# Altium footprint library Battery.PcbLib: 1 footprints
Each footprint in its own frame and in the unit in brackets; x right, y up, seen from the top. Pads: shape width x height; smd on the part's side, far side on the other; paste and mask are expansions set on the pad; w line width, h text height; cw(c..) or ccw(c..) is an arc to the next point about the centre after c.
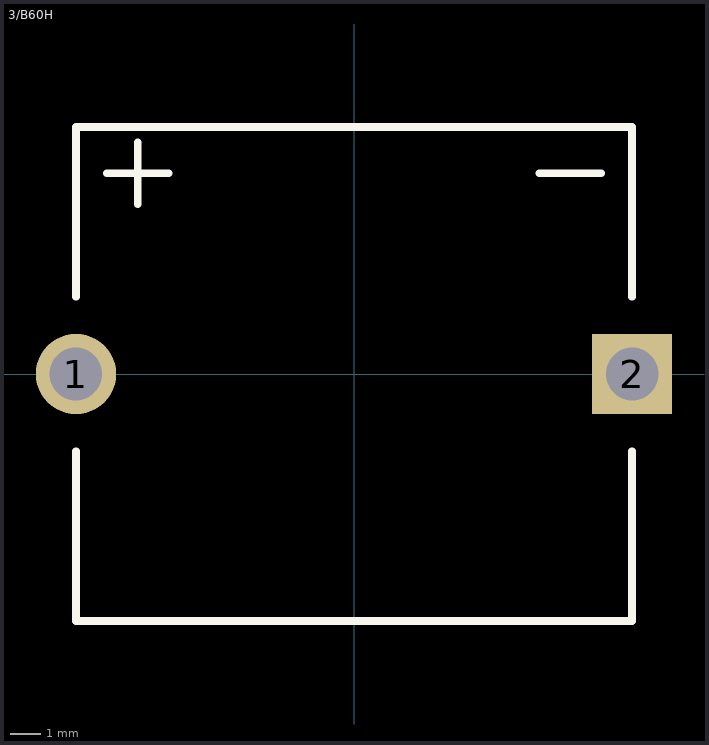
[diagram p0: the footprint, top view; thin cyan lines are the x and y axes]

## 3/B60H [mm]
pads (2):
  round 2.6 hole 1.7 paste-1000 mask+0: 1(-9,0)
  rect 2.6x2.6 hole 1.7 paste-1000 mask+0: 2(9,0)
Top Overlay:
  lines w0.254: -9,-2.5 -9,-8 9,-8 9,-2.5 ; -9,2.5 -9,8 9,8 9,2.5 ; -8,6.5 -6,6.5 ; -7,5.5 -7,7.5 ; 6,6.5 8,6.5
3D body "battery_nimh_3.6.step": height 17, standoff -3, extent -9.1,-8 9.1,8